# Altium footprint library XBP24-AUI-001.PcbLib: 1 footprints
Each footprint in its own frame and in the unit in brackets; x right, y up, seen from the top. Pads: shape width x height; smd on the part's side, far side on the other; paste and mask are expansions set on the pad; w line width, h text height; cw(c..) or ccw(c..) is an arc to the next point about the centre after c.
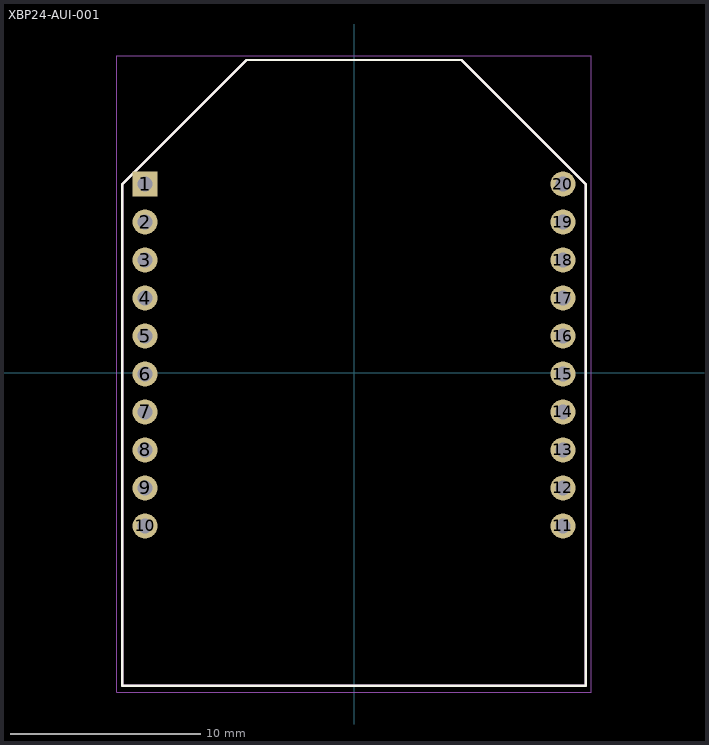
[diagram p0: the footprint, top view; thin cyan lines are the x and y axes]

## XBP24-AUI-001 [mm]
pads (20):
  rect 1.308x1.308 hole 0.8: 1(-11,9.94)
  round 1.308 hole 0.8: 2(-11,7.94) 3(-11,5.94) 4(-11,3.94) 5(-11,1.94) 6(-11,-0.06) 7(-11,-2.06) 8(-11,-4.06) 9(-11,-6.06) 10(-11,-8.06) 11(11,-8.06) 12(11,-6.06) 13(11,-4.06) 14(11,-2.06) 15(11,-0.06) 16(11,1.94) 17(11,3.94) 18(11,5.94) 19(11,7.94) 20(11,9.94)
Top Overlay:
  lines w0.127: -12.19,-16.47 -12.19,9.94 -5.66,16.47 5.66,16.47 12.19,9.94 12.19,-16.47 -12.19,-16.47
Mechanical 13:
  lines w0.127: -12.19,-16.47 -12.19,9.94 -5.66,16.47 5.66,16.47 12.19,9.94 12.19,-16.47 -12.19,-16.47
Mechanical 15:
  lines w0.05: -12.5,-16.81 12.5,-16.81 12.5,16.69 -12.5,16.69 -12.5,-16.81